# Altium footprint library Heat_Sink_183013.PcbLib: 1 footprints
Each footprint in its own frame and in the unit in brackets; x right, y up, seen from the top. Pads: shape width x height; smd on the part's side, far side on the other; paste and mask are expansions set on the pad; w line width, h text height; cw(c..) or ccw(c..) is an arc to the next point about the centre after c.
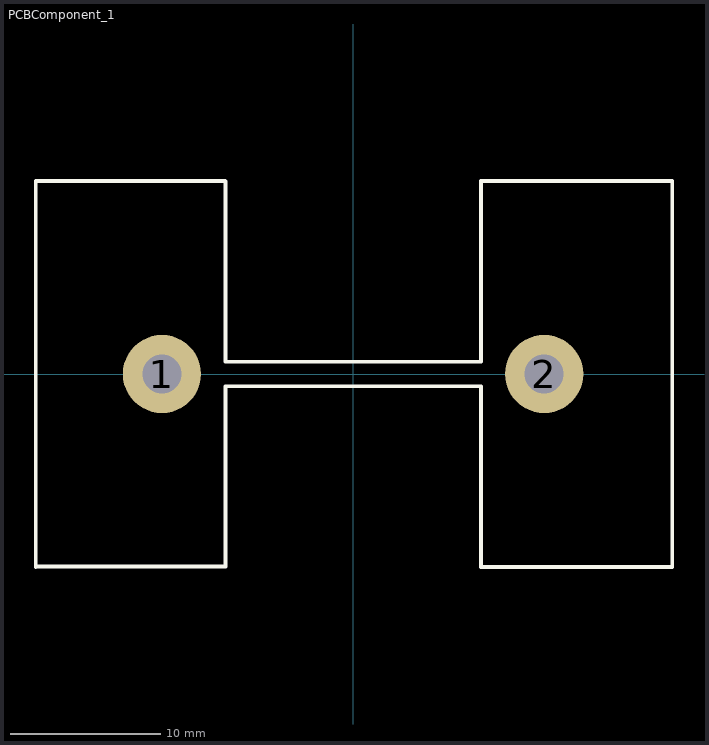
[diagram p0: the footprint, top view; thin cyan lines are the x and y axes]

## PCBComponent_1 [mm]
pads (2):
  round 5.2 hole 2.6: 1(-12.7,0) 2(12.7,0)
Top Overlay:
  lines w0.254: -21.082,-12.827 -21.082,12.827 -8.509,12.827 ; -21.053,-12.798 -8.48,-12.798 -8.48,-0.81 8.509,-0.81 8.509,-12.827 21.209,-12.827 21.209,12.827 8.509,12.827 8.509,0.81 ; -8.48,12.798 -8.48,0.81 8.48,0.81
3D body "User Library-Heat Sink 657-20ABP(Wakefield).step": height 50.8, standoff -3.96, extent -20.87,-12.7 20.98,12.7